# Altium schematic symbol library 5.08 KF 128-2P.SchLib: 2 symbols
Pins are listed as number, name and electrical type; pins without a type are passive.

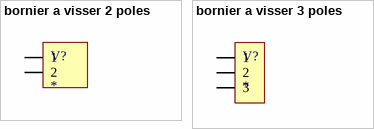
[diagram p0: symbols bornier a visser 2 poles to bornier a visser 3 poles]

## bornier a visser 2 poles
designator V?
footprint bornier a visser 2 poles
pins: 1, 2

## bornier a visser 3 poles
designator V?
footprint bornier a visser 3 poles 5.08 KF 128-2P
pins: 1, 2, 3